# Altium footprint library DXPpcb.PCBLIB: 575 footprints (part 23 of 36)
Each footprint in its own frame and in the unit in brackets; x right, y up, seen from the top. Pads: shape width x height; smd on the part's side, far side on the other; paste and mask are expansions set on the pad; w line width, h text height; cw(c..) or ccw(c..) is an arc to the next point about the centre after c.
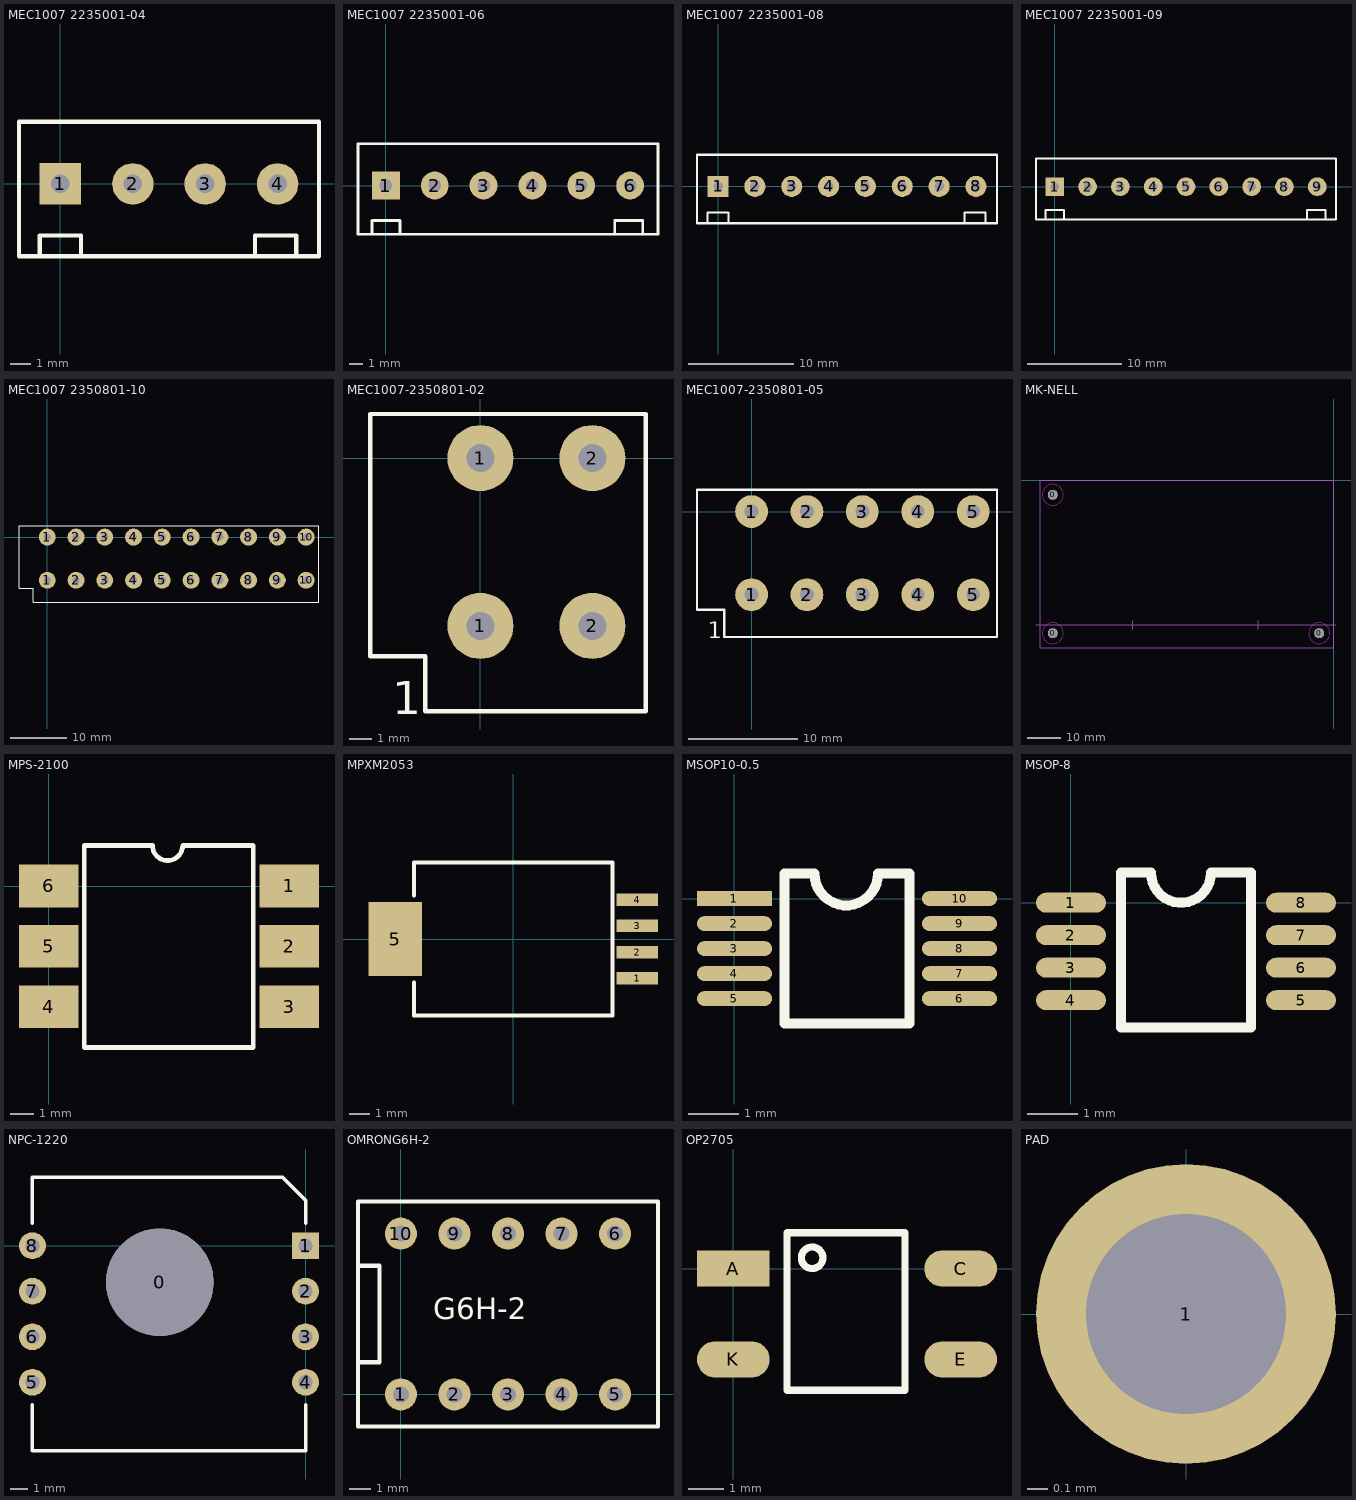
[diagram p22: the footprints below, top view; thin cyan lines are the x and y axes]

## MEC1007 2235001-04 [mm]
pads (4):
  rect 2x2 hole 0.9: 1(0,0)
  round 2 hole 0.9: 2(3.5,0) 3(7,0) 4(10.5,0)
TopOverlay:
  lines w0.2: -1,-3.5 -1,-2.5 1,-2.5 1,-3.5 ; 9.4,-3.5 9.4,-2.5 11.4,-2.5 11.4,-3.5 ; -2,-3.5 12.5,-3.5 12.5,3 -2,3 -2,0 -2,-3.5

## MEC1007 2235001-06 [mm]
pads (6):
  rect 2x2 hole 0.9: 1(0,0)
  round 2 hole 0.9: 2(3.5,0) 3(7,0) 4(10.5,0) 5(14,0) 6(17.5,0)
TopOverlay:
  lines w0.2: -1,-3.5 -1,-2.5 1,-2.5 1,-3.5 ; 16.4,-3.5 16.4,-2.5 18.4,-2.5 18.4,-3.5 ; -2,-3.5 19.5,-3.5 19.5,3 -2,3 -2,0 -2,-3.5

## MEC1007 2235001-08 [mm]
pads (8):
  rect 2x2 hole 0.9: 1(0,0)
  round 2 hole 0.9: 2(3.5,0) 3(7,0) 4(10.5,0) 5(14,0) 6(17.5,0) 7(21,0) 8(24.5,0)
TopOverlay:
  lines w0.2: -1,-3.5 -1,-2.5 1,-2.5 1,-3.5 ; 23.4,-3.5 23.4,-2.5 25.4,-2.5 25.4,-3.5 ; -2,-3.5 26.5,-3.5 26.5,3 -2,3 -2,0 -2,-3.5

## MEC1007 2235001-09 [mm]
pads (9):
  rect 2x2 hole 0.9: 1(0,0)
  round 2 hole 0.9: 2(3.5,0) 3(7,0) 4(10.5,0) 5(14,0) 6(17.5,0) 7(21,0) 8(24.5,0) 9(28,0)
TopOverlay:
  lines w0.2: -1,-3.5 -1,-2.5 1,-2.5 1,-3.5 ; 26.9,-3.5 26.9,-2.5 28.9,-2.5 28.9,-3.5 ; -2,-3.5 -2,0 -2,3 30,3 30,-3.5 -2,-3.5

## MEC1007 2350801-10 [mm]
pads (20):
  round 3 hole 1.27: 1(0,-7.62) 1(0,0) 2(5.08,-7.62) 2(5.08,0) 3(10.16,-7.62) 3(10.16,0) 4(15.24,-7.62) 4(15.24,0) 5(20.32,-7.62) 5(20.32,0) 6(25.4,-7.62) 6(25.4,0) 7(30.48,-7.62) 7(30.48,0) 8(35.56,-7.62) 8(35.56,0) 9(40.64,-7.62) 9(40.64,0) 10(45.72,-7.62) 10(45.72,0)
TopOverlay:
  lines w0.2: -5,-9 -5,2 48,2 48,-4 48,-9 48,-11.5 -2.5,-11.5 -2.5,-9 -5,-9

## MEC1007-2350801-02 [mm]
pads (4):
  round 3 hole 1.27: 1(0,-7.62) 1(0,0) 2(5.08,-7.62) 2(5.08,0)
TopOverlay:
  lines w0.2: -5,-9 -5,2 7.5,2 7.5,-11.5 -2.5,-11.5 -2.5,-9 -5,-9
  text "1" at -4,-11.62 h1.5

## MEC1007-2350801-05 [mm]
pads (10):
  round 3 hole 1.27: 1(0,-7.62) 1(0,0) 2(5.08,-7.62) 2(5.08,0) 3(10.16,-7.62) 3(10.16,0) 4(15.24,-7.62) 4(15.24,0) 5(20.32,-7.62) 5(20.32,0)
TopOverlay:
  lines w0.2: -5,-9 -5,2 22.5,2 22.5,-11.5 -2.5,-11.5 -2.5,-9 -5,-9
  text "1" at -4,-11.62 h1.5

## MK-NELL [mm]
pads (3):
  round 3 hole 3: 0(-85.09,-46.355) 0(-85.09,-4.445) 0(-4.445,-46.355)
KeepOutLayer:
  circle w0.2: c-85.09,-4.445 r3.175
  circle w0.2: c-4.445,-46.355 r3.175
  circle w0.2: c-85.09,-46.355 r3.175
Mechanical3:
  lines w0.2: -90.17,-43.815 0.635,-43.815 ; -60.96,-45.085 -60.96,-42.545 ; -22.86,-45.085 -22.86,-42.545 ; -88.9,-50.8 -88.9,0 0,0 0,-50.8 -88.9,-50.8

## MPS-2100 [mm]
pads (6):
  rect 2.5x1.8 smd: 1(10.12,0.009) 2(10.12,-2.531) 3(10.12,-5.071) 4(0,-5.071) 5(0,-2.531) 6(0,0.009)
TopOverlay:
  lines w0.2: 1.5,-6.791 1.5,1.709 4.365,1.709 ccw(c5,1.709) 5.635,1.709 8.6,1.709 8.6,-6.791 1.5,-6.791

## MPXM2053 [mm]
pads (5):
  rect 2x0.6 smd: 1(6,-1.905) 2(6,-0.635) 3(6,0.635) 4(6,1.905)
  rect 2.6x3.6 smd: 5(-5.7,0)
TopOverlay:
  lines w0.2: -4.8,-2.1 -4.8,-3.7 4.8,-3.7 4.8,3.7 -4.8,3.7 -4.8,2.1

## MSOP10-0.5 [mm]
pads (10):
  rect 1.5x0.3 smd: 1(0,0)
  oval 1.5x0.3 smd: 2(0,-0.5) 3(0,-1) 4(0,-1.5) 5(0,-2) 6(4.5,-2) 7(4.5,-1.5) 8(4.5,-1) 9(4.5,-0.5) 10(4.5,0)
TopOverlay:
  lines w0.2: 2.87,0.5 cw(c2.235,0.5) 1.6,0.5 1,0.5 1,-2.5 3.5,-2.5 3.5,0.5 2.9,0.5

## MSOP-8 [mm]
pads (8):
  oval 1.4x0.4 smd: 1(0,0) 2(0,-0.65) 3(0,-1.3) 4(0,-1.95) 5(4.6,-1.95) 6(4.6,-1.3) 7(4.6,-0.65) 8(4.6,0)
TopOverlay:
  lines w0.2: 1,-2.5 3.6,-2.5 3.6,0.6 2.8,0.6 cw(c2.2,0.6) 1.6,0.6 1,0.6 1,-2.5

## NPC-1220 [mm]
pads (9):
  round 6 hole 6: 0(-8.128,-2.032)
  rect 1.5x1.5 hole 0.8: 1(0,0)
  round 1.5 hole 0.8: 2(0,-2.54) 3(0,-5.08) 4(0,-7.62) 5(-15.24,-7.62) 6(-15.24,-5.08) 7(-15.24,-2.54) 8(-15.24,0)
TopOverlay:
  lines w0.2: -15.24,-8.89 -15.24,-11.43 0,-11.43 0,-8.89 ; -15.24,1.27 -15.24,3.81 -1.27,3.81 0,2.54 0,1.27

## OMRONG6H-2 [mil]
pads (10):
  round 60 hole 30: 1(0,0) 2(100,0) 3(200,0) 4(300,0) 5(400,0) 6(400,300) 7(300,300) 8(200,300) 9(100,300) 10(0,300)
TopOverlay:
  lines w7.87: -80,60 -40,60 -40,240 -60,240 -80,240 ; -80,-60 480,-60 480,360 -80,360 -80,-60
  text "G6H-2" at 60,140 h40

## OP2705 [mil]
pads (4):
  rect 80x40 smd: A(0,0)
  oval 80x40 smd: C(250,0) E(250,-100) K(0,-100)
TopOverlay:
  circle w7.87: c86.61,11.81 r11.81
  lines w7.87: 59.06,-133.86 188.98,-133.86 188.98,39.37 153.54,39.37 106.3,39.37 59.06,39.37 59.06,-133.86

## PAD [mm]
pads (1):
  round 1.5 hole 1: 1(0,0)